# Altium integrated library Adafruit ESP8266 Feather.IntLib: 29 symbols
Pins are listed as number, name and electrical type; pins without a type are passive.

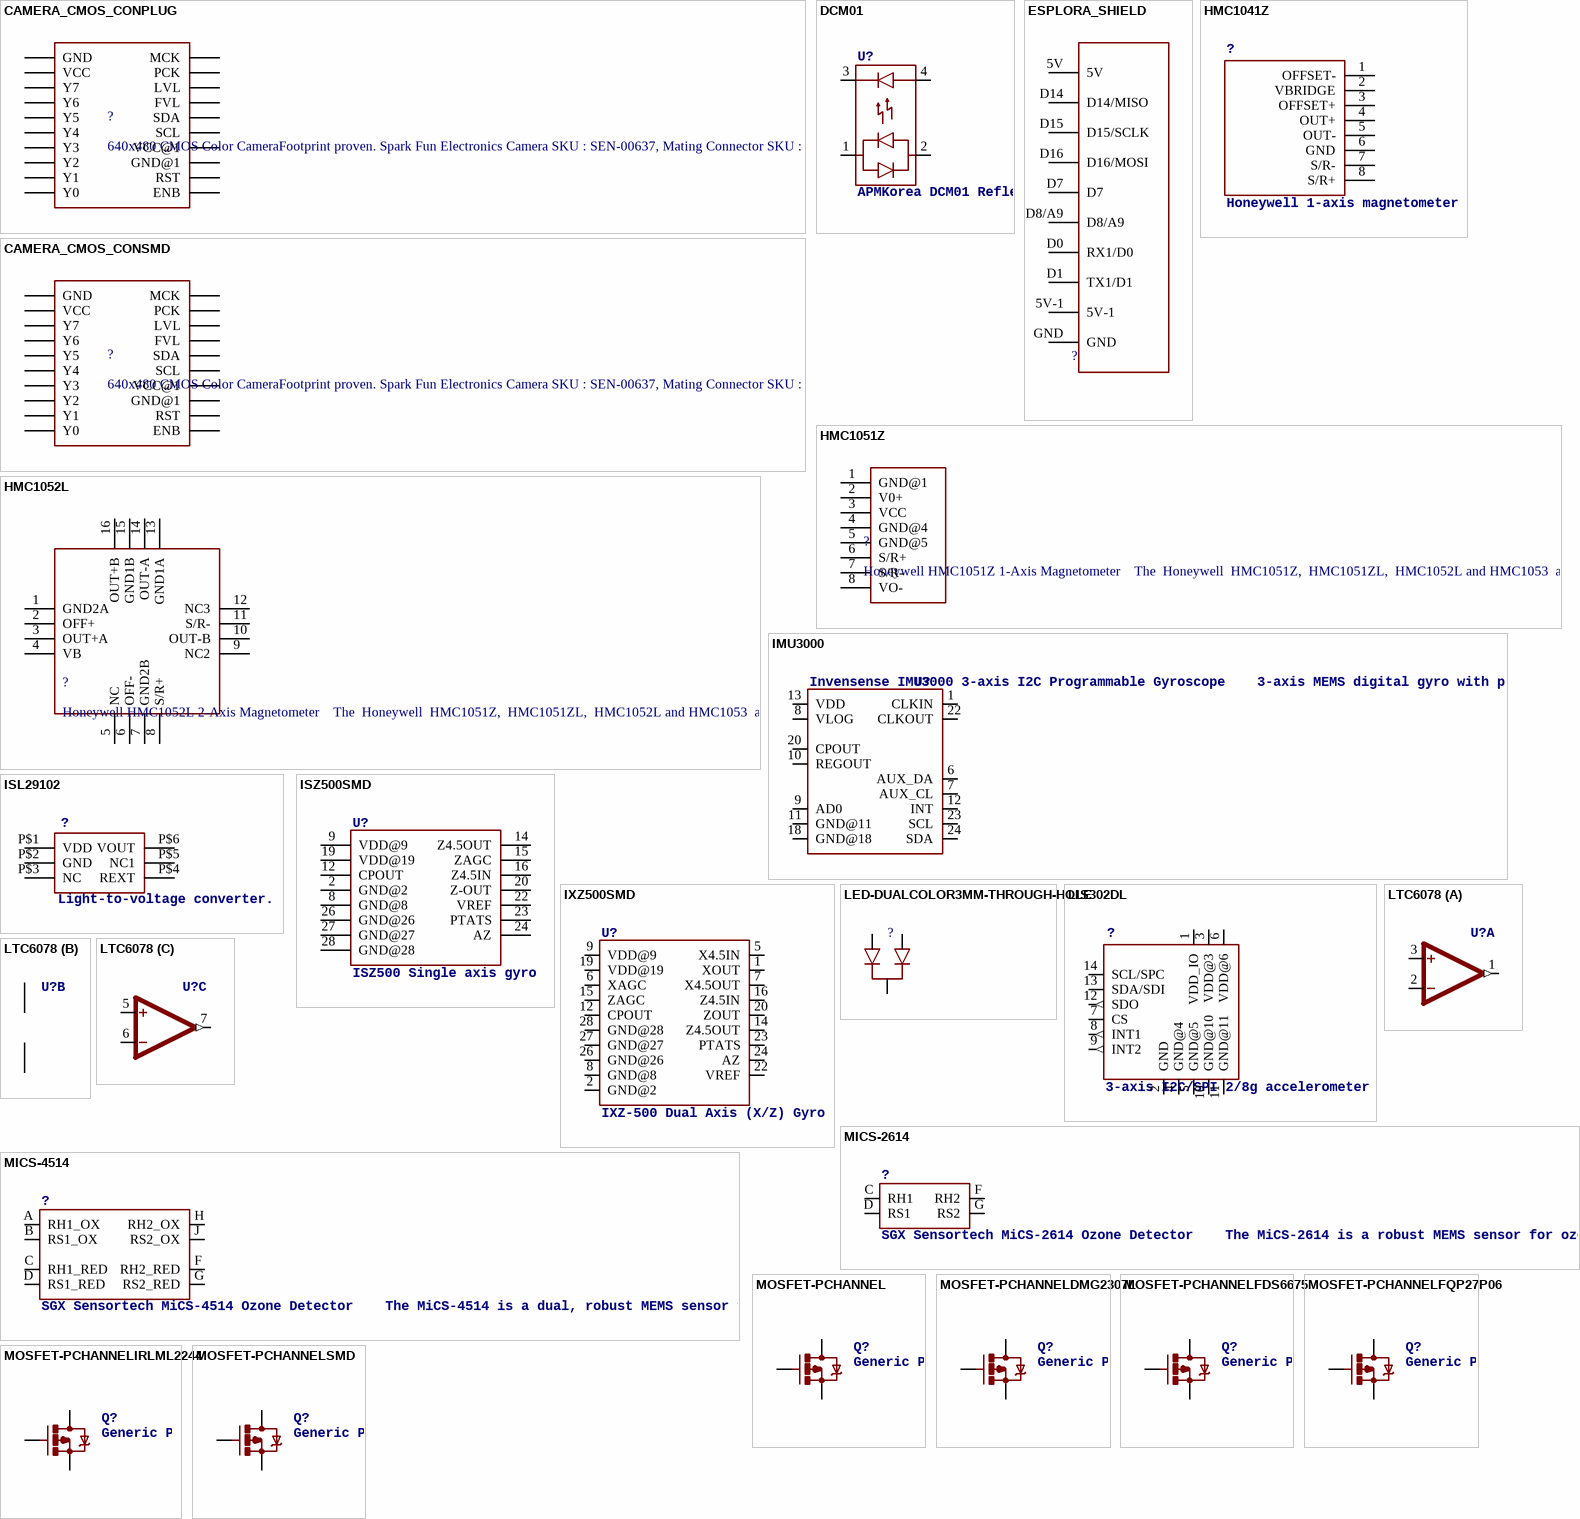
[diagram p0: symbols CAMERA_CMOS_CONPLUG to MOSFET-PCHANNELSMD]

## CAMERA_CMOS_CONPLUG
designator ?, comment 640x480 CMOS Color CameraFootprint proven. Spark Fun Electronics Camera SKU : SEN-00637, Mating Connector SKU : SEN-00638
footprint CAMERA_CMOS_PLUG
pins: 1 Y0, 2 Y1, 3 Y2, 4 Y3, 5 Y4, 6 Y5, 7 Y6, 8 Y7, 9 VCC, 10 GND, 11 ENB, 12 RST, 13 GND@1, 14 VCC@1, 15 SCL, 16 SDA, 17 FVL, 18 LVL, 19 PCK, 20 MCK

## CAMERA_CMOS_CONSMD
designator ?, comment 640x480 CMOS Color CameraFootprint proven. Spark Fun Electronics Camera SKU : SEN-00637, Mating Connector SKU : SEN-00638
footprint CAMERA_CMOS_CON
pins: ENB, FVLD FVL, GND, GND@1, LVLD LVL, MCLK MCK, PCLK PCK, RST, SCL, SDA, VCC, VCC@1, Y0, Y1, Y2, Y3, Y4, Y5, Y6, Y7

## DCM01
designator U?, comment APMKorea DCM01 Reflective Blood Sensor    Sensor head for Pulse Oximeter.  Contains IR and visible red LEDs, and PIN photodiode.   Datasheet
PROD_ID: IC-10303
footprint DCM01
pins: 1, 2, 3, 4

## ESPLORA_SHIELD
designator ?
footprint ESPLORA_SHIELD
pins: 5V, 5V-1, D0 RX1/D0, D1 TX1/D1, D7, D8/A9, D14 D14/MISO, D15 D15/SCLK, D16 D16/MOSI, GND

## HMC1041Z
designator ?, comment Honeywell 1-axis magnetometer
footprint HMC1041Z
pins: 1 OFFSET-, 2 VBRIDGE, 3 OFFSET+, 4 OUT+, 5 OUT-, 6 GND, 7 S/R-, 8 S/R+

## HMC1051Z
designator ?, comment Honeywell HMC1051Z 1-Axis Magnetometer    The  Honeywell  HMC1051Z,  HMC1051ZL,  HMC1052L and HMC1053  are magnetoresistive sensors designed for low field magnetic sensing. Various  packaging  options  have been created  from  the  basic HMC1052  sensor  chip to create  1,  2  and  3-axis  magneto-resistive  sensors  forcost effective  and small  size  solutions.  The  advantage  of  the HMC105X   family   of   sensors is   in   the   near-perfectly orthogonal   dual   sensor   on   a   single   chip   with   shared set/reset and offset coils/straps included.   Datasheet SparkFun Products  Compass Module - HMC1051Z (single axis) (COM-11071)  IMU 6DOF v4 Sensor Board (COM-08726)  IMU 6 Degrees of Freedom - v4 with Bluetooth Capability (COM-08454)
PROD_ID: COMP-08797; SF_ID: COM-11071
footprint HMC1051Z3
pins: 1 GND@1, 2 V0+, 3 VCC, 4 GND@4, 5 GND@5, 6 S/R+, 7 S/R-, 8 VO-

## HMC1052L
designator ?, comment Honeywell HMC1052L 2-Axis Magnetometer    The  Honeywell  HMC1051Z,  HMC1051ZL,  HMC1052L and HMC1053  are magnetoresistive sensors designed for low field magnetic sensing. Various  packaging  options  have been created  from  the  basic HMC1052  sensor  chip to create  1,  2  and  3-axis  magneto-resistive  sensors  forcost effective  and small  size  solutions.  The  advantage  of  the HMC105X   family   of   sensors is   in   the   near-perfectly orthogonal   dual   sensor   on   a   single   chip   with   shared set/reset and offset coils/straps included.   Datasheet SparkFun Products  Compass Module - HMC1051Z (single axis) (COM-11071)  IMU 6DOF v4 Sensor Board (COM-08726)  IMU 6 Degrees of Freedom - v4 with Bluetooth Capability (COM-08454)
PROD_ID: IC-08228; SF_ID: COM-00708
footprint 16LPCC
pins: 1 GND2A, 2 OFF+, 3 OUT+A, 4 VB, 5 NC, 6 OFF-, 7 GND2B, 8 S/R+, 9 NC2, 10 OUT-B, 11 S/R-, 12 NC3, 13 GND1A, 14 OUT-A, 15 GND1B, 16 OUT+B

## IMU3000
designator U?, comment Invensense IMU3000 3-axis I2C Programmable Gyroscope    3-axis MEMS digital gyro with programmable ranges from +-250 to +-2000 degrees/sec. In addition, it has a secondary I2C port that interfaces with a digital accelerometer to deliver a complete 6-axis sensor output from its primary I2C port. The fusion output offloads the intensive motion processing computation requirements from the host processor, reducing the need for frequent polling of the motion sensor output and enabling low cost, low power microcontrollers.   Datasheet SparkFun Products  SparkFun Digital IMU Breakout - IMU3000 (SEN-10251)  SparkFun IMU Fusion Board - ADXL345 & IMU3000 (SEN-10252)
PROD_ID: IC-10050
footprint QFN-24
pins: 1 CLKIN, 6 AUX_DA, 7 AUX_CL, 8 VLOG, 9 AD0, 10 REGOUT, 11 GND@11, 12 INT, 13 VDD, 18 GND@18, 20 CPOUT, 22 CLKOUT, 23 SCL, 24 SDA

## ISL29102
designator ?, comment Light-to-voltage converter.
footprint ODFN6
pins: P$1 VDD, P$2 GND, P$3 NC, P$4 REXT, P$5 NC1, P$6 VOUT

## ISZ500SMD
designator U?, comment ISZ500 Single axis gyro
footprint QFN-28_6X8
pins: 2 GND@2, 8 GND@8, 9 VDD@9, 12 CPOUT, 14 Z4.5OUT, 15 ZAGC, 16 Z4.5IN, 19 VDD@19, 20 Z-OUT, 22 VREF, 23 PTATS, 24 AZ, 26 GND@26, 27 GND@27, 28 GND@28

## IXZ500SMD
designator U?, comment IXZ-500 Dual Axis (X/Z) Gyro
footprint QFN-28_6X8
pins: 1 XOUT, 2 GND@2, 5 X4.5IN, 6 XAGC, 7 X4.5OUT, 8 GND@8, 9 VDD@9, 12 CPOUT, 14 Z4.5OUT, 15 ZAGC, 16 Z4.5IN, 19 VDD@19, 20 ZOUT, 22 VREF, 23 PTATS, 24 AZ, 26 GND@26, 27 GND@27, 28 GND@28

## LED-DUALCOLOR3MM-THROUGH-HOLE
designator ?
footprint LED-DUALCOLOR-3MM
pins: A1, A2, K

## LIS302DL
designator ?, comment 3-axis I2C/SPI 2/8g accelerometer
footprint LGA14
pins: 1 VDD_IO (power), 2 GND (power), 3 VDD@3 (power), 4 GND@4 (power), 5 GND@5 (power), 6 VDD@6 (power), 7 CS, 8 INT1 (out), 9 INT2 (out), 10 GND@10 (power), 11 GND@11 (power), 12 SDO (out), 13 SDA/SDI, 14 SCL/SPC

## LTC6078
designator U?
footprint MSOP8
part A pins: 1 OUT (out), 2 -IN, 3 +IN
part B pins: 4 GND (power), 8 VCC (power)
part C pins: 5 +IN, 6 -IN, 7 OUT (out)

## MICS-2614
designator ?, comment SGX Sensortech MiCS-2614 Ozone Detector    The MiCS-2614 is a robust MEMS sensor for ozone (O3) detection; suitable also for gas leak detection and outdoor air quality monitoring.   Datasheet SparkFun Products  Not currently in use.
PROD_ID: COMP-12309
footprint MICS-XXXX
pins: C RH1, D RS1, F RH2, G RS2

## MICS-4514
designator ?, comment SGX Sensortech MiCS-4514 Ozone Detector    The MiCS-4514 is a dual, robust MEMS sensor for the detection of pollution from automobile exhausts. This device detects carbon monoxide (CO) and nitrogen dioxide (NO2).    Datasheet SparkFun Products  Not currently in use.
PROD_ID: COMP-12310
footprint MICS-XXXX
pins: A RH1_OX, B RS1_OX, C RH1_RED, D RS1_RED, F RH2_RED, G RS2_RED, H RH2_OX, J RS2_OX

## MOSFET-PCHANNEL
designator Q?, comment Generic PMOSFET    IRLML2244 - TRANS-11153 (SOT-23 -20V -4.3A) (1.Gate 2.Source 3.Drain)     FQP27P06 - COM-10349(TO-220 -60V -27A) (1.Gate 2.Source 3.Drain)
PROD_ID: TRANS-08285
footprint SOT23-3
pins: 1 G, 2 S, 3 D

## MOSFET-PCHANNELDMG2307L
designator Q?, comment Generic PMOSFET    IRLML2244 - TRANS-11153 (SOT-23 -20V -4.3A) (1.Gate 2.Source 3.Drain)     FQP27P06 - COM-10349(TO-220 -60V -27A) (1.Gate 2.Source 3.Drain)
PROD_ID: TRANS-11308
footprint SOT23-3
pins: 1 G, 2 S, 3 D

## MOSFET-PCHANNELFDS6675
designator Q?, comment Generic PMOSFET    IRLML2244 - TRANS-11153 (SOT-23 -20V -4.3A) (1.Gate 2.Source 3.Drain)     FQP27P06 - COM-10349(TO-220 -60V -27A) (1.Gate 2.Source 3.Drain)
footprint SO08
pins: 1 2 3 S, 4 G, 5 6 7 8 D

## MOSFET-PCHANNELFQP27P06
designator Q?, comment Generic PMOSFET    IRLML2244 - TRANS-11153 (SOT-23 -20V -4.3A) (1.Gate 2.Source 3.Drain)     FQP27P06 - COM-10349(TO-220 -60V -27A) (1.Gate 2.Source 3.Drain)
footprint TO220V
pins: 1 G, 2 D, 3 S

## MOSFET-PCHANNELIRLML2244
designator Q?, comment Generic PMOSFET    IRLML2244 - TRANS-11153 (SOT-23 -20V -4.3A) (1.Gate 2.Source 3.Drain)     FQP27P06 - COM-10349(TO-220 -60V -27A) (1.Gate 2.Source 3.Drain)
PROD_ID: TRANS-11153
footprint SOT23-3
pins: 1 G, 2 S, 3 D

## MOSFET-PCHANNELSMD
designator Q?, comment Generic PMOSFET    IRLML2244 - TRANS-11153 (SOT-23 -20V -4.3A) (1.Gate 2.Source 3.Drain)     FQP27P06 - COM-10349(TO-220 -60V -27A) (1.Gate 2.Source 3.Drain)
footprint SOT23-3
pins: 1 G, 2 S, 3 D

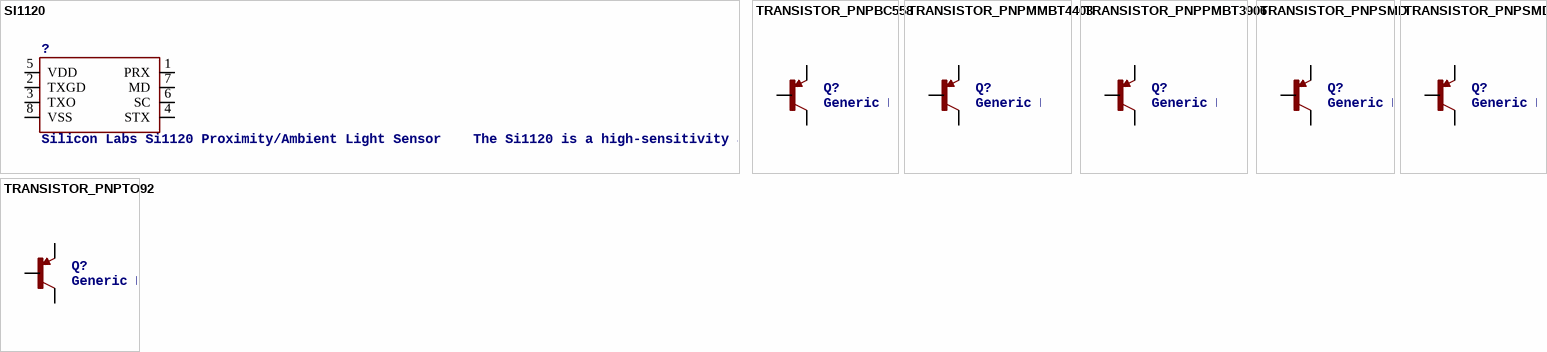
[diagram p1: symbols SI1120 to TRANSISTOR_PNPTO92]

## SI1120
designator ?, comment Silicon Labs Si1120 Proximity/Ambient Light Sensor    The Si1120 is a high-sensitivity active infrared proximity and ambient light sensor IC, enabling innovative touchless human interface applications with ultra-low power advantages. Consisting of an infrared LED driver, an infrared photodiode, an ambient light sensor and control logic, the device is packaged in a 3 mm x 3 mm clear DFN.   Datasheet SparkFun Products  No current assemblies
PROD_ID: IC-09981
footprint ODFN-8
pins: 1 PRX, 2 TXGD, 3 TXO, 4 STX, 5 VDD, 6 SC, 7 MD, 8 VSS

## TRANSISTOR_PNPBC558
designator Q?, comment Generic PNP BJT      Double check pinouts against datasheets- not all devices are the same! MMBT3906 - 40V 200mA SOT-23 (TRANS-08052) MMBT4403 - 40V 600mA SOT-23 (TRANS-09245)
footprint TO-92-AMMO
pins: 1 C, 2 B, 3 E

## TRANSISTOR_PNPMMBT4403
designator Q?, comment Generic PNP BJT      Double check pinouts against datasheets- not all devices are the same! MMBT3906 - 40V 200mA SOT-23 (TRANS-08052) MMBT4403 - 40V 600mA SOT-23 (TRANS-09245)
PROD_ID: TRANS-09245
footprint SOT23-3
pins: 1 B, 2 E, 3 C

## TRANSISTOR_PNPPMBT3906
designator Q?, comment Generic PNP BJT      Double check pinouts against datasheets- not all devices are the same! MMBT3906 - 40V 200mA SOT-23 (TRANS-08052) MMBT4403 - 40V 600mA SOT-23 (TRANS-09245)
PROD_ID: TRANS-08052
footprint SOT23-3
pins: 1 B, 2 E, 3 C

## TRANSISTOR_PNPSMD
designator Q?, comment Generic PNP BJT      Double check pinouts against datasheets- not all devices are the same! MMBT3906 - 40V 200mA SOT-23 (TRANS-08052) MMBT4403 - 40V 600mA SOT-23 (TRANS-09245)
footprint SOT23-3
pins: 1 B, 2 E, 3 C

## TRANSISTOR_PNPSMD-2
designator Q?, comment Generic PNP BJT      Double check pinouts against datasheets- not all devices are the same! MMBT3906 - 40V 200mA SOT-23 (TRANS-08052) MMBT4403 - 40V 600mA SOT-23 (TRANS-09245)
footprint SOT89
pins: 1 B, 2 C, 3 E

## TRANSISTOR_PNPTO92
designator Q?, comment Generic PNP BJT      Double check pinouts against datasheets- not all devices are the same! MMBT3906 - 40V 200mA SOT-23 (TRANS-08052) MMBT4403 - 40V 600mA SOT-23 (TRANS-09245)
footprint TO-92
pins: 1 E, 2 B, 3 C